# Altium integrated library TSW-103-05-G-S.IntLib: 1 symbol
Pins are listed as number, name and electrical type; pins without a type are passive.

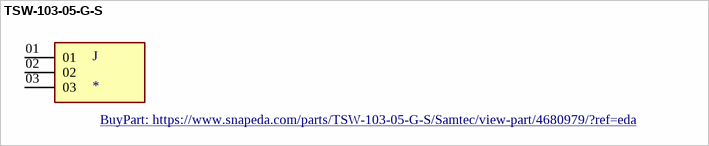
[diagram p0: symbol TSW-103-05-G-S]

## TSW-103-05-G-S
designator J
TSW Series .100 Terminal Strip; MP: TSW-103-05-G-S; MF: Samtec Inc.; Package: None; Value: *; Availability: Bad; SnapEDA_Link: https://www.snapeda.com/parts/TSW-103-05-G-S/Samtec/view-part/4680979/?ref=snap; Toby_UK-Purchase-URL: https://snapeda.com/shop?store=Toby+UK&id=4680979; Price: None; BuyPart: https://www.snapeda.com/parts/TSW-103-05-G-S/Samtec/view-part/4680979/?ref=eda
footprint SAMTEC_TSW-103-05-G-S
pins: 01, 02, 03